# EAGLE library part CD4572UB (library pepin)
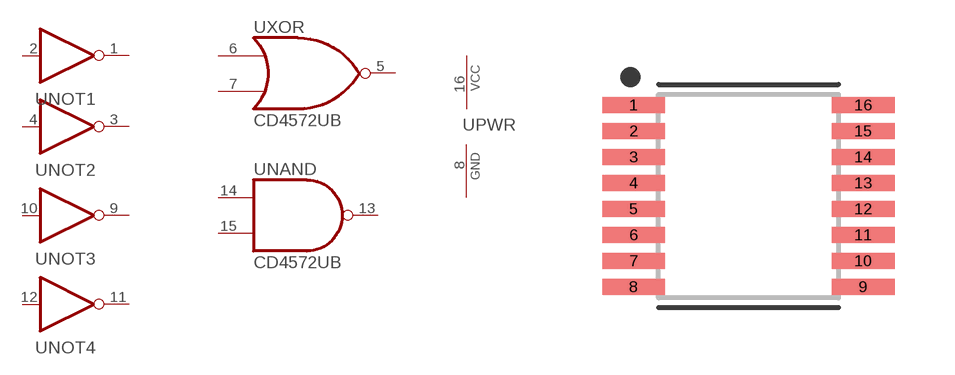
[diagram p22: symbol with the pads of SOP65P640X110-16N; footprint SOP65P640X110-16N]

Designator prefix U; gates NOT1=INVERTER NOT2=INVERTER NOT3=INVERTER NOT4=INVERTER XOR=NOR NAND=NAND PWR=PWRN

## CD4572UB  [SOP65P640X110-16N]
1  NOT1:Y
2  NOT1:A
3  NOT2:Y
4  NOT2:A
5  XOR:O  out
6  XOR:I0  in
7  XOR:I1  in
8  PWR:GND  pwr
9  NOT3:Y
10  NOT3:A
11  NOT4:Y
12  NOT4:A
13  NAND:O  out
14  NAND:I0  in
15  NAND:I1  in
16  PWR:VCC  pwr

## Footprint SOP65P640X110-16N (pad centres in mm)
16-SOP, 0.65 mm pitch, 6.40 mm span, 5.00 X 4.40 X 1.10 mm body 16-pin SOP package with 0.65 mm pitch, 6.40 mm span with body size 5.00 X 4.40 X 1.10 mm
smd 1.572 x 0.407: 1 -2.872,2.275; 2 -2.872,1.625; 3 -2.872,0.975; 4 -2.872,0.325; 5 -2.872,-0.325; 6 -2.872,-0.975; 7 -2.872,-1.625; 8 -2.872,-2.275; 9 2.872,-2.275; 10 2.872,-1.625; 11 2.872,-0.975; 12 2.872,-0.325; 13 2.872,0.325; 14 2.872,0.975; 15 2.872,1.625; 16 2.872,2.275